# EAGLE library part 74HC595D,112 (library 74HC595D_112)
74HC(T)595 - 8-bit serial-in, serial or parallel-out shift register with output latches; 3-state@en-us Source: Datasheet <https://assets.nexperia.com/documents/data-sheet/74HC_HCT595.pdf>
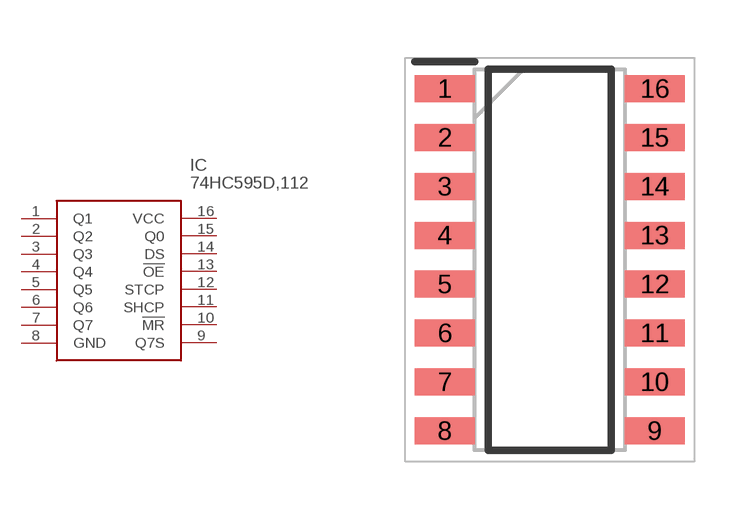
[diagram p0: symbol with the pads of SOIC127P600X175-16N; footprint SOIC127P600X175-16N]

Designator prefix IC

## 74HC595D,112 (Arrow_Part_Number: 74HC595D,112; Arrow_Price-Stock: https://www.arrow.com/en/products/74hc595d112/nexperia?region=nac; Description: 74HC(T)595 - 8-bit serial-in, serial or parallel-out shift register with output latches; 3-state@en-us; Height: 1.75mm; Manufacturer_Name: Nexperia; Manufacturer_Part_Number: 74HC595D,112; Mouser_Part_Number: 771-74HC595D; Mouser_Price-Stock: https://www.mouser.co.uk/ProductDetail/Nexperia/74HC595D112?qs=P62ublwmbi9CWen68lvwew%3D%3D)  [SOIC127P600X175-16N]
1  Q1
2  Q2
3  Q3
4  Q4
5  Q5
6  Q6
7  Q7
8  GND
9  Q7S
10  !MR
11  SHCP
12  STCP
13  !OE
14  DS
15  Q0
16  VCC

## Footprint SOIC127P600X175-16N (pad centres in mm)
SOT 109-1
smd 1.55 x 0.7: 1 -2.725,4.445; 2 -2.725,3.175; 3 -2.725,1.905; 4 -2.725,0.635; 5 -2.725,-0.635; 6 -2.725,-1.905; 7 -2.725,-3.175; 8 -2.725,-4.445; 9 2.725,-4.445; 10 2.725,-3.175; 11 2.725,-1.905; 12 2.725,-0.635; 13 2.725,0.635; 14 2.725,1.905; 15 2.725,3.175; 16 2.725,4.445